# Altium footprint library AMP Footprints.PcbLib: 903 footprints (part 30 of 58)
Each footprint in its own frame and in the unit in brackets; x right, y up, seen from the top. Pads: shape width x height; smd on the part's side, far side on the other; paste and mask are expansions set on the pad; w line width, h text height; cw(c..) or ccw(c..) is an arc to the next point about the centre after c.
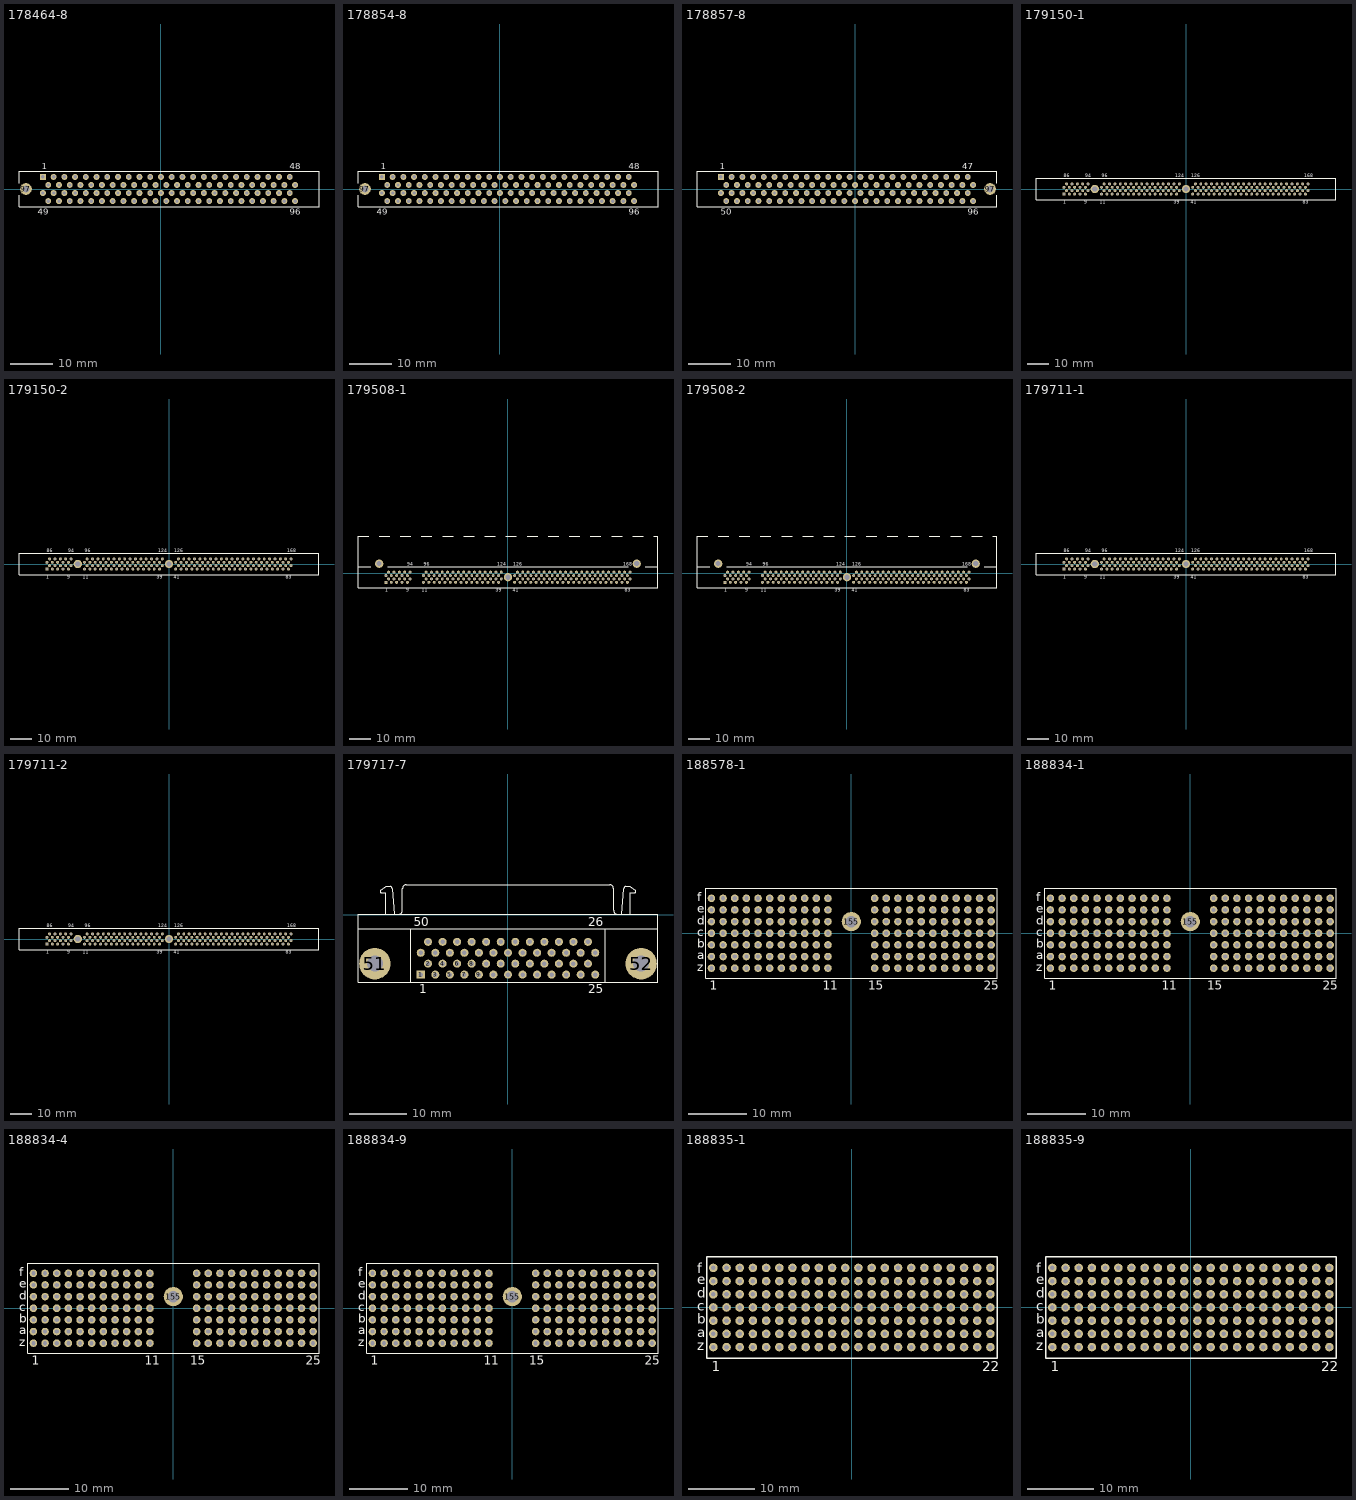
[diagram p29: the footprints below, top view; thin cyan lines are the x and y axes]

## 178464-8 [mm] "Connector; D Subminiature 050 Series; 96 Position; Vertical"
height 9.5
pads (97):
  rect 1.4x1.4 hole 0.8: 1(-27.845,2.857)
  round 1.4 hole 0.8: 2(-26.575,0.953) 3(-25.305,2.857) 4(-24.035,0.953) 5(-22.765,2.857) 6(-21.495,0.953) 7(-20.225,2.857) 8(-18.955,0.953) 9(-17.685,2.857) 10(-16.415,0.953) 11(-15.145,2.857) 12(-13.875,0.953) 13(-12.605,2.857) 14(-11.335,0.953) 15(-10.065,2.857) 16(-8.795,0.953) 17(-7.525,2.857) 18(-6.255,0.953) 19(-4.985,2.857) 20(-3.715,0.953) 21(-2.445,2.857) 22(-1.175,0.953) 23(0.095,2.857) 24(1.365,0.953) 25(2.635,2.857) 26(3.905,0.953) 27(5.175,2.857) 28(6.445,0.953) 29(7.715,2.857) 30(8.985,0.953) 31(10.255,2.857) 32(11.525,0.953) 33(12.795,2.857) 34(14.065,0.953) 35(15.335,2.857) 36(16.605,0.953) 37(17.875,2.857) 38(19.145,0.953) 39(20.415,2.857) 40(21.685,0.953) 41(22.955,2.857) 42(24.225,0.953) 43(25.495,2.857) 44(26.765,0.953) 45(28.035,2.857) 46(29.305,0.953) 47(30.575,2.857) 48(31.845,0.953) 49(-27.845,-0.953) 50(-26.575,-2.857) 51(-25.305,-0.953) 52(-24.035,-2.857) 53(-22.765,-0.953) 54(-21.495,-2.857) 55(-20.225,-0.953) 56(-18.955,-2.857) 57(-17.685,-0.953) 58(-16.415,-2.857) 59(-15.145,-0.953) 60(-13.875,-2.857) 61(-12.605,-0.953) 62(-11.335,-2.857) 63(-10.065,-0.953) 64(-8.795,-2.857) 65(-7.525,-0.953) 66(-6.255,-2.857) 67(-4.985,-0.953) 68(-3.715,-2.857) 69(-2.445,-0.953) 70(-1.175,-2.857) 71(0.095,-0.953) 72(1.365,-2.857) 73(2.635,-0.953) 74(3.905,-2.857) 75(5.175,-0.953) 76(6.445,-2.857) 77(7.715,-0.953) 78(8.985,-2.857) 79(10.255,-0.953) 80(11.525,-2.857) 81(12.795,-0.953) 82(14.065,-2.857) 83(15.335,-0.953) 84(16.605,-2.857) 85(17.875,-0.953) 86(19.145,-2.857) 87(20.415,-0.953) 88(21.685,-2.857) 89(22.955,-0.953) 90(24.225,-2.857) 91(25.495,-0.953) 92(26.765,-2.857) 93(28.035,-0.953) 94(29.305,-2.857) 95(30.575,-0.953) 96(31.845,-2.857)
  round 2.8 hole 1.7: 97(-31.845,0)
Top Overlay:
  lines w0.2: -33.5,-1.45 -33.5,-4.157 37.5,-4.157 37.5,4.157 -33.5,4.157 -33.5,1.411
  text "49" at -29.095,-6.132 h1.5
  text "1" at -28.095,4.633 h1.5
  text "48" at 30.595,4.633 h1.5
  text "96" at 30.595,-6.132 h1.5

## 178854-8 [mm] "Connector; D Subminiature 050 Series; 96 Position; Vertical"
height 9.5
pads (97):
  rect 1.4x1.4 hole 0.8: 1(-27.845,2.857)
  round 1.4 hole 0.8: 2(-26.575,0.953) 3(-25.305,2.857) 4(-24.035,0.953) 5(-22.765,2.857) 6(-21.495,0.953) 7(-20.225,2.857) 8(-18.955,0.953) 9(-17.685,2.857) 10(-16.415,0.953) 11(-15.145,2.857) 12(-13.875,0.953) 13(-12.605,2.857) 14(-11.335,0.953) 15(-10.065,2.857) 16(-8.795,0.953) 17(-7.525,2.857) 18(-6.255,0.953) 19(-4.985,2.857) 20(-3.715,0.953) 21(-2.445,2.857) 22(-1.175,0.953) 23(0.095,2.857) 24(1.365,0.953) 25(2.635,2.857) 26(3.905,0.953) 27(5.175,2.857) 28(6.445,0.953) 29(7.715,2.857) 30(8.985,0.953) 31(10.255,2.857) 32(11.525,0.953) 33(12.795,2.857) 34(14.065,0.953) 35(15.335,2.857) 36(16.605,0.953) 37(17.875,2.857) 38(19.145,0.953) 39(20.415,2.857) 40(21.685,0.953) 41(22.955,2.857) 42(24.225,0.953) 43(25.495,2.857) 44(26.765,0.953) 45(28.035,2.857) 46(29.305,0.953) 47(30.575,2.857) 48(31.845,0.953) 49(-27.845,-0.953) 50(-26.575,-2.857) 51(-25.305,-0.953) 52(-24.035,-2.857) 53(-22.765,-0.953) 54(-21.495,-2.857) 55(-20.225,-0.953) 56(-18.955,-2.857) 57(-17.685,-0.953) 58(-16.415,-2.857) 59(-15.145,-0.953) 60(-13.875,-2.857) 61(-12.605,-0.953) 62(-11.335,-2.857) 63(-10.065,-0.953) 64(-8.795,-2.857) 65(-7.525,-0.953) 66(-6.255,-2.857) 67(-4.985,-0.953) 68(-3.715,-2.857) 69(-2.445,-0.953) 70(-1.175,-2.857) 71(0.095,-0.953) 72(1.365,-2.857) 73(2.635,-0.953) 74(3.905,-2.857) 75(5.175,-0.953) 76(6.445,-2.857) 77(7.715,-0.953) 78(8.985,-2.857) 79(10.255,-0.953) 80(11.525,-2.857) 81(12.795,-0.953) 82(14.065,-2.857) 83(15.335,-0.953) 84(16.605,-2.857) 85(17.875,-0.953) 86(19.145,-2.857) 87(20.415,-0.953) 88(21.685,-2.857) 89(22.955,-0.953) 90(24.225,-2.857) 91(25.495,-0.953) 92(26.765,-2.857) 93(28.035,-0.953) 94(29.305,-2.857) 95(30.575,-0.953) 96(31.845,-2.857)
  round 2.8 hole 1.7: 97(-31.845,0)
Top Overlay:
  lines w0.2: -33.5,-1.45 -33.5,-4.157 37.5,-4.157 37.5,4.157 -33.5,4.157 -33.5,1.411
  text "49" at -29.095,-6.132 h1.5
  text "1" at -28.095,4.633 h1.5
  text "48" at 30.595,4.633 h1.5
  text "96" at 30.595,-6.132 h1.5

## 178857-8 [mm] "Connector; D Subminiature 050 Series; 96 Position; Vertical"
height 9.5
pads (97):
  rect 1.4x1.4 hole 0.8: 1(-31.845,2.857)
  round 1.4 hole 0.8: 2(-30.575,0.953) 3(-29.305,2.857) 4(-28.035,0.953) 5(-26.765,2.857) 6(-25.495,0.953) 7(-24.225,2.857) 8(-22.955,0.953) 9(-21.685,2.857) 10(-20.415,0.953) 11(-19.145,2.857) 12(-17.875,0.953) 13(-16.605,2.857) 14(-15.335,0.953) 15(-14.065,2.857) 16(-12.795,0.953) 17(-11.525,2.857) 18(-10.255,0.953) 19(-8.985,2.857) 20(-7.715,0.953) 21(-6.445,2.857) 22(-5.175,0.953) 23(-3.905,2.857) 24(-2.635,0.953) 25(-1.365,2.857) 26(-0.095,0.953) 27(1.175,2.857) 28(2.445,0.953) 29(3.715,2.857) 30(4.985,0.953) 31(6.255,2.857) 32(7.525,0.953) 33(8.795,2.857) 34(10.065,0.953) 35(11.335,2.857) 36(12.605,0.953) 37(13.875,2.857) 38(15.145,0.953) 39(16.415,2.857) 40(17.685,0.953) 41(18.955,2.857) 42(20.225,0.953) 43(21.495,2.857) 44(22.765,0.953) 45(24.035,2.857) 46(25.305,0.953) 47(26.575,2.857) 48(27.845,0.953) 49(-31.845,-0.953) 50(-30.575,-2.857) 51(-29.305,-0.953) 52(-28.035,-2.857) 53(-26.765,-0.953) 54(-25.495,-2.857) 55(-24.225,-0.953) 56(-22.955,-2.857) 57(-21.685,-0.953) 58(-20.415,-2.857) 59(-19.145,-0.953) 60(-17.875,-2.857) 61(-16.605,-0.953) 62(-15.335,-2.857) 63(-14.065,-0.953) 64(-12.795,-2.857) 65(-11.525,-0.953) 66(-10.255,-2.857) 67(-8.985,-0.953) 68(-7.715,-2.857) 69(-6.445,-0.953) 70(-5.175,-2.857) 71(-3.905,-0.953) 72(-2.635,-2.857) 73(-1.365,-0.953) 74(-0.095,-2.857) 75(1.175,-0.953) 76(2.445,-2.857) 77(3.715,-0.953) 78(4.985,-2.857) 79(6.255,-0.953) 80(7.525,-2.857) 81(8.795,-0.953) 82(10.065,-2.857) 83(11.335,-0.953) 84(12.605,-2.857) 85(13.875,-0.953) 86(15.145,-2.857) 87(16.415,-0.953) 88(17.685,-2.857) 89(18.955,-0.953) 90(20.225,-2.857) 91(21.495,-0.953) 92(22.765,-2.857) 93(24.035,-0.953) 94(25.305,-2.857) 95(26.575,-0.953) 96(27.845,-2.857)
  round 2.8 hole 1.7: 97(31.845,0)
Top Overlay:
  lines w0.2: 33.5,-1.45 33.5,-4.157 -37.5,-4.157 -37.5,4.157 33.5,4.157 33.5,1.411
  text "47" at 25.325,4.633 h1.5
  text "50" at -31.825,-6.132 h1.5
  text "96" at 26.595,-6.132 h1.5
  text "1" at -32.095,4.633 h1.5

## 179150-1 [mm] "Connector; DIMM; 168 Position; Vertical"
height 23.15
pads (170):
  rect 1.4x1.4 hole 0.8: 1(-57.785,-2.4)
  round 1.4 hole 0.8: 2(-56.515,-0.8) 3(-55.245,-2.4) 4(-53.975,-0.8) 5(-52.705,-2.4) 6(-51.435,-0.8) 7(-50.165,-2.4) 8(-48.895,-0.8) 9(-47.625,-2.4) 10(-46.355,-0.8) 11(-40.005,-2.4) 12(-38.735,-0.8) 13(-37.465,-2.4) 14(-36.195,-0.8) 15(-34.925,-2.4) 16(-33.655,-0.8) 17(-32.385,-2.4) 18(-31.115,-0.8) 19(-29.845,-2.4) 20(-28.575,-0.8) 21(-27.305,-2.4) 22(-26.035,-0.8) 23(-24.765,-2.4) 24(-23.495,-0.8) 25(-22.225,-2.4) 26(-20.955,-0.8) 27(-19.685,-2.4) 28(-18.415,-0.8) 29(-17.145,-2.4) 30(-15.875,-0.8) 31(-14.605,-2.4) 32(-13.335,-0.8) 33(-12.065,-2.4) 34(-10.795,-0.8) 35(-9.525,-2.4) 36(-8.255,-0.8) 37(-6.985,-2.4) 38(-5.715,-0.8) 39(-4.445,-2.4) 40(-3.175,-0.8) 41(3.175,-2.4) 42(4.445,-0.8) 43(5.715,-2.4) 44(6.985,-0.8) 45(8.255,-2.4) 46(9.525,-0.8) 47(10.795,-2.4) 48(12.065,-0.8) 49(13.335,-2.4) 50(14.605,-0.8) 51(15.875,-2.4) 52(17.145,-0.8) 53(18.415,-2.4) 54(19.685,-0.8) 55(20.955,-2.4) 56(22.225,-0.8) 57(23.495,-2.4) 58(24.765,-0.8) 59(26.035,-2.4) 60(27.305,-0.8) 61(28.575,-2.4) 62(29.845,-0.8) 63(31.115,-2.4) 64(32.385,-0.8) 65(33.655,-2.4) 66(34.925,-0.8) 67(36.195,-2.4) 68(37.465,-0.8) 69(38.735,-2.4) 70(40.005,-0.8) 71(41.275,-2.4) 72(42.545,-0.8) 73(43.815,-2.4) 74(45.085,-0.8) 75(46.355,-2.4) 76(47.625,-0.8) 77(48.895,-2.4) 78(50.165,-0.8) 79(51.435,-2.4) 80(52.705,-0.8) 81(53.975,-2.4) 82(55.245,-0.8) 83(56.515,-2.4) 84(57.785,-0.8) 85(-57.785,0.8) 86(-56.515,2.4) 87(-55.245,0.8) 88(-53.975,2.4) 89(-52.705,0.8) 90(-51.435,2.4) 91(-50.165,0.8) 92(-48.895,2.4) 93(-47.625,0.8) 94(-46.355,2.4) 95(-40.005,0.8) 96(-38.735,2.4) 97(-37.465,0.8) 98(-36.195,2.4) 99(-34.925,0.8) 100(-33.655,2.4) 101(-32.385,0.8) 102(-31.115,2.4) 103(-29.845,0.8) 104(-28.575,2.4) 105(-27.305,0.8) 106(-26.035,2.4) 107(-24.765,0.8) 108(-23.495,2.4) 109(-22.225,0.8) 110(-20.955,2.4) 111(-19.685,0.8) 112(-18.415,2.4) 113(-17.145,0.8) 114(-15.875,2.4) 115(-14.605,0.8) 116(-13.335,2.4) 117(-12.065,0.8) 118(-10.795,2.4) 119(-9.525,0.8) 120(-8.255,2.4) 121(-6.985,0.8) 122(-5.715,2.4) 123(-4.445,0.8) 124(-3.175,2.4) 125(3.175,0.8) 126(4.445,2.4) 127(5.715,0.8) 128(6.985,2.4) 129(8.255,0.8) 130(9.525,2.4) 131(10.795,0.8) 132(12.065,2.4) 133(13.335,0.8) 134(14.605,2.4) 135(15.875,0.8) 136(17.145,2.4) 137(18.415,0.8) 138(19.685,2.4) 139(20.955,0.8) 140(22.225,2.4) 141(23.495,0.8) 142(24.765,2.4) 143(26.035,0.8) 144(27.305,2.4) 145(28.575,0.8) 146(29.845,2.4) 147(31.115,0.8) 148(32.385,2.4) 149(33.655,0.8) 150(34.925,2.4) 151(36.195,0.8) 152(37.465,2.4) 153(38.735,0.8) 154(40.005,2.4) 155(41.275,0.8) 156(42.545,2.4) 157(43.815,0.8) 158(45.085,2.4) 159(46.355,0.8) 160(47.625,2.4) 161(48.895,0.8) 162(50.165,2.4) 163(51.435,0.8) 164(52.705,2.4) 165(53.975,0.8) 166(55.245,2.4) 167(56.515,0.8) 168(57.785,2.4)
  round 3.9 hole 2.4: 169(-43.18,0) 170(0,0)
Top Overlay:
  lines w0.2: -71,-5 71,-5 71,5 -71,5 -71,-5
  text "86" at -57.765,5.475 h1.5
  text "1" at -58.035,-6.975 h1.5
  text "94" at -47.605,5.475 h1.5
  text "11" at -40.88,-6.975 h1.5
  text "96" at -39.985,5.475 h1.5
  text "124" at -5.05,5.475 h1.5
  text "41" at 2.175,-6.975 h1.5
  text "126" at 2.57,5.475 h1.5
  text "83" at 55.265,-6.975 h1.5
  text "168" at 55.91,5.475 h1.5
  text "9" at -48.125,-6.975 h1.5
  text "39" at -5.695,-6.975 h1.5

## 179150-2 [mm] "Connector; DIMM; 168 Position; Vertical"
height 23.15
pads (170):
  rect 1.4x1.4 hole 0.8: 1(-57.785,-2.4)
  round 1.4 hole 0.8: 2(-56.515,-0.8) 3(-55.245,-2.4) 4(-53.975,-0.8) 5(-52.705,-2.4) 6(-51.435,-0.8) 7(-50.165,-2.4) 8(-48.895,-0.8) 9(-47.625,-2.4) 10(-46.355,-0.8) 11(-40.005,-2.4) 12(-38.735,-0.8) 13(-37.465,-2.4) 14(-36.195,-0.8) 15(-34.925,-2.4) 16(-33.655,-0.8) 17(-32.385,-2.4) 18(-31.115,-0.8) 19(-29.845,-2.4) 20(-28.575,-0.8) 21(-27.305,-2.4) 22(-26.035,-0.8) 23(-24.765,-2.4) 24(-23.495,-0.8) 25(-22.225,-2.4) 26(-20.955,-0.8) 27(-19.685,-2.4) 28(-18.415,-0.8) 29(-17.145,-2.4) 30(-15.875,-0.8) 31(-14.605,-2.4) 32(-13.335,-0.8) 33(-12.065,-2.4) 34(-10.795,-0.8) 35(-9.525,-2.4) 36(-8.255,-0.8) 37(-6.985,-2.4) 38(-5.715,-0.8) 39(-4.445,-2.4) 40(-3.175,-0.8) 41(3.175,-2.4) 42(4.445,-0.8) 43(5.715,-2.4) 44(6.985,-0.8) 45(8.255,-2.4) 46(9.525,-0.8) 47(10.795,-2.4) 48(12.065,-0.8) 49(13.335,-2.4) 50(14.605,-0.8) 51(15.875,-2.4) 52(17.145,-0.8) 53(18.415,-2.4) 54(19.685,-0.8) 55(20.955,-2.4) 56(22.225,-0.8) 57(23.495,-2.4) 58(24.765,-0.8) 59(26.035,-2.4) 60(27.305,-0.8) 61(28.575,-2.4) 62(29.845,-0.8) 63(31.115,-2.4) 64(32.385,-0.8) 65(33.655,-2.4) 66(34.925,-0.8) 67(36.195,-2.4) 68(37.465,-0.8) 69(38.735,-2.4) 70(40.005,-0.8) 71(41.275,-2.4) 72(42.545,-0.8) 73(43.815,-2.4) 74(45.085,-0.8) 75(46.355,-2.4) 76(47.625,-0.8) 77(48.895,-2.4) 78(50.165,-0.8) 79(51.435,-2.4) 80(52.705,-0.8) 81(53.975,-2.4) 82(55.245,-0.8) 83(56.515,-2.4) 84(57.785,-0.8) 85(-57.785,0.8) 86(-56.515,2.4) 87(-55.245,0.8) 88(-53.975,2.4) 89(-52.705,0.8) 90(-51.435,2.4) 91(-50.165,0.8) 92(-48.895,2.4) 93(-47.625,0.8) 94(-46.355,2.4) 95(-40.005,0.8) 96(-38.735,2.4) 97(-37.465,0.8) 98(-36.195,2.4) 99(-34.925,0.8) 100(-33.655,2.4) 101(-32.385,0.8) 102(-31.115,2.4) 103(-29.845,0.8) 104(-28.575,2.4) 105(-27.305,0.8) 106(-26.035,2.4) 107(-24.765,0.8) 108(-23.495,2.4) 109(-22.225,0.8) 110(-20.955,2.4) 111(-19.685,0.8) 112(-18.415,2.4) 113(-17.145,0.8) 114(-15.875,2.4) 115(-14.605,0.8) 116(-13.335,2.4) 117(-12.065,0.8) 118(-10.795,2.4) 119(-9.525,0.8) 120(-8.255,2.4) 121(-6.985,0.8) 122(-5.715,2.4) 123(-4.445,0.8) 124(-3.175,2.4) 125(3.175,0.8) 126(4.445,2.4) 127(5.715,0.8) 128(6.985,2.4) 129(8.255,0.8) 130(9.525,2.4) 131(10.795,0.8) 132(12.065,2.4) 133(13.335,0.8) 134(14.605,2.4) 135(15.875,0.8) 136(17.145,2.4) 137(18.415,0.8) 138(19.685,2.4) 139(20.955,0.8) 140(22.225,2.4) 141(23.495,0.8) 142(24.765,2.4) 143(26.035,0.8) 144(27.305,2.4) 145(28.575,0.8) 146(29.845,2.4) 147(31.115,0.8) 148(32.385,2.4) 149(33.655,0.8) 150(34.925,2.4) 151(36.195,0.8) 152(37.465,2.4) 153(38.735,0.8) 154(40.005,2.4) 155(41.275,0.8) 156(42.545,2.4) 157(43.815,0.8) 158(45.085,2.4) 159(46.355,0.8) 160(47.625,2.4) 161(48.895,0.8) 162(50.165,2.4) 163(51.435,0.8) 164(52.705,2.4) 165(53.975,0.8) 166(55.245,2.4) 167(56.515,0.8) 168(57.785,2.4)
  round 3.9 hole 2.4: 169(-43.18,0) 170(0,0)
Top Overlay:
  lines w0.2: -71,-5 71,-5 71,5 -71,5 -71,-5
  text "86" at -57.765,5.475 h1.5
  text "1" at -58.035,-6.975 h1.5
  text "94" at -47.605,5.475 h1.5
  text "11" at -40.88,-6.975 h1.5
  text "96" at -39.985,5.475 h1.5
  text "124" at -5.05,5.475 h1.5
  text "41" at 2.175,-6.975 h1.5
  text "126" at 2.57,5.475 h1.5
  text "83" at 55.265,-6.975 h1.5
  text "168" at 55.91,5.475 h1.5
  text "9" at -48.125,-6.975 h1.5
  text "39" at -5.695,-6.975 h1.5

## 179508-1 [mm] "Connector; DIMM; 168 Position; Orientation 25°"
height 12.7
pads (171):
  rect 1.4x1.4 hole 0.8: 1(-57.785,-4.4)
  round 1.4 hole 0.8: 2(-56.515,-2.8) 3(-55.245,-4.4) 4(-53.975,-2.8) 5(-52.705,-4.4) 6(-51.435,-2.8) 7(-50.165,-4.4) 8(-48.895,-2.8) 9(-47.625,-4.4) 10(-46.355,-2.8) 11(-40.005,-4.4) 12(-38.735,-2.8) 13(-37.465,-4.4) 14(-36.195,-2.8) 15(-34.925,-4.4) 16(-33.655,-2.8) 17(-32.385,-4.4) 18(-31.115,-2.8) 19(-29.845,-4.4) 20(-28.575,-2.8) 21(-27.305,-4.4) 22(-26.035,-2.8) 23(-24.765,-4.4) 24(-23.495,-2.8) 25(-22.225,-4.4) 26(-20.955,-2.8) 27(-19.685,-4.4) 28(-18.415,-2.8) 29(-17.145,-4.4) 30(-15.875,-2.8) 31(-14.605,-4.4) 32(-13.335,-2.8) 33(-12.065,-4.4) 34(-10.795,-2.8) 35(-9.525,-4.4) 36(-8.255,-2.8) 37(-6.985,-4.4) 38(-5.715,-2.8) 39(-4.445,-4.4) 40(-3.175,-2.8) 41(3.175,-4.4) 42(4.445,-2.8) 43(5.715,-4.4) 44(6.985,-2.8) 45(8.255,-4.4) 46(9.525,-2.8) 47(10.795,-4.4) 48(12.065,-2.8) 49(13.335,-4.4) 50(14.605,-2.8) 51(15.875,-4.4) 52(17.145,-2.8) 53(18.415,-4.4) 54(19.685,-2.8) 55(20.955,-4.4) 56(22.225,-2.8) 57(23.495,-4.4) 58(24.765,-2.8) 59(26.035,-4.4) 60(27.305,-2.8) 61(28.575,-4.4) 62(29.845,-2.8) 63(31.115,-4.4) 64(32.385,-2.8) 65(33.655,-4.4) 66(34.925,-2.8) 67(36.195,-4.4) 68(37.465,-2.8) 69(38.735,-4.4) 70(40.005,-2.8) 71(41.275,-4.4) 72(42.545,-2.8) 73(43.815,-4.4) 74(45.085,-2.8) 75(46.355,-4.4) 76(47.625,-2.8) 77(48.895,-4.4) 78(50.165,-2.8) 79(51.435,-4.4) 80(52.705,-2.8) 81(53.975,-4.4) 82(55.245,-2.8) 83(56.515,-4.4) 84(57.785,-2.8) 85(-57.785,-1.2) 86(-56.515,0.4) 87(-55.245,-1.2) 88(-53.975,0.4) 89(-52.705,-1.2) 90(-51.435,0.4) 91(-50.165,-1.2) 92(-48.895,0.4) 93(-47.625,-1.2) 94(-46.355,0.4) 95(-40.005,-1.2) 96(-38.735,0.4) 97(-37.465,-1.2) 98(-36.195,0.4) 99(-34.925,-1.2) 100(-33.655,0.4) 101(-32.385,-1.2) 102(-31.115,0.4) 103(-29.845,-1.2) 104(-28.575,0.4) 105(-27.305,-1.2) 106(-26.035,0.4) 107(-24.765,-1.2) 108(-23.495,0.4) 109(-22.225,-1.2) 110(-20.955,0.4) 111(-19.685,-1.2) 112(-18.415,0.4) 113(-17.145,-1.2) 114(-15.875,0.4) 115(-14.605,-1.2) 116(-13.335,0.4) 117(-12.065,-1.2) 118(-10.795,0.4) 119(-9.525,-1.2) 120(-8.255,0.4) 121(-6.985,-1.2) 122(-5.715,0.4) 123(-4.445,-1.2) 124(-3.175,0.4) 125(3.175,-1.2) 126(4.445,0.4) 127(5.715,-1.2) 128(6.985,0.4) 129(8.255,-1.2) 130(9.525,0.4) 131(10.795,-1.2) 132(12.065,0.4) 133(13.335,-1.2) 134(14.605,0.4) 135(15.875,-1.2) 136(17.145,0.4) 137(18.415,-1.2) 138(19.685,0.4) 139(20.955,-1.2) 140(22.225,0.4) 141(23.495,-1.2) 142(24.765,0.4) 143(26.035,-1.2) 144(27.305,0.4) 145(28.575,-1.2) 146(29.845,0.4) 147(31.115,-1.2) 148(32.385,0.4) 149(33.655,-1.2) 150(34.925,0.4) 151(36.195,-1.2) 152(37.465,0.4) 153(38.735,-1.2) 154(40.005,0.4) 155(41.275,-1.2) 156(42.545,0.4) 157(43.815,-1.2) 158(45.085,0.4) 159(46.355,-1.2) 160(47.625,0.4) 161(48.895,-1.2) 162(50.165,0.4) 163(51.435,-1.2) 164(52.705,0.4) 165(53.975,-1.2) 166(55.245,0.4) 167(56.515,-1.2) 168(57.785,0.4)
  round 3.9 hole 2.4: 169(-60.96,4.4) 170(0,-2) 171(60.96,4.4)
Top Overlay:
  lines w0.2: -70.98,3 -70.98,17.5 -65.98,17.5 ; -65,3 -71,3 -71,-7 71,-7 71,3 ; -60.98,17.5 -55.98,17.5 ; -57,3 57,3 ; -50.98,17.5 -45.98,17.5 ; -40.98,17.5 -35.98,17.5 ; -30.98,17.5 -25.98,17.5 ; -20.98,17.5 -15.98,17.5 ; -10.98,17.5 -5.98,17.5 ; -0.98,17.5 4.02,17.5 ; 9.02,17.5 14.02,17.5 ; 19.02,17.5 24.02,17.5 ; 29.02,17.5 34.02,17.5 ; 39.02,17.5 44.02,17.5 ; 49.02,17.5 54.02,17.5 ; 59.02,17.5 64.02,17.5 ; 65,3 71,3 ; 69.02,17.5 71.02,17.5 ; 71,17.5 71,3
  text "1" at -58.035,-8.975 h1.5
  text "94" at -47.605,3.475 h1.5
  text "11" at -40.88,-8.975 h1.5
  text "96" at -39.985,3.475 h1.5
  text "124" at -5.05,3.475 h1.5
  text "41" at 2.175,-8.975 h1.5
  text "126" at 2.57,3.475 h1.5
  text "83" at 55.265,-8.975 h1.5
  text "9" at -48.125,-8.975 h1.5
  text "39" at -5.695,-8.975 h1.5
  text "168" at 54.585,3.475 h1.5

## 179508-2 [mm] "Connector; DIMM; 168 Position; Orientation 25°"
height 12.7
pads (171):
  rect 1.4x1.4 hole 0.8: 1(-57.785,-4.4)
  round 1.4 hole 0.8: 2(-56.515,-2.8) 3(-55.245,-4.4) 4(-53.975,-2.8) 5(-52.705,-4.4) 6(-51.435,-2.8) 7(-50.165,-4.4) 8(-48.895,-2.8) 9(-47.625,-4.4) 10(-46.355,-2.8) 11(-40.005,-4.4) 12(-38.735,-2.8) 13(-37.465,-4.4) 14(-36.195,-2.8) 15(-34.925,-4.4) 16(-33.655,-2.8) 17(-32.385,-4.4) 18(-31.115,-2.8) 19(-29.845,-4.4) 20(-28.575,-2.8) 21(-27.305,-4.4) 22(-26.035,-2.8) 23(-24.765,-4.4) 24(-23.495,-2.8) 25(-22.225,-4.4) 26(-20.955,-2.8) 27(-19.685,-4.4) 28(-18.415,-2.8) 29(-17.145,-4.4) 30(-15.875,-2.8) 31(-14.605,-4.4) 32(-13.335,-2.8) 33(-12.065,-4.4) 34(-10.795,-2.8) 35(-9.525,-4.4) 36(-8.255,-2.8) 37(-6.985,-4.4) 38(-5.715,-2.8) 39(-4.445,-4.4) 40(-3.175,-2.8) 41(3.175,-4.4) 42(4.445,-2.8) 43(5.715,-4.4) 44(6.985,-2.8) 45(8.255,-4.4) 46(9.525,-2.8) 47(10.795,-4.4) 48(12.065,-2.8) 49(13.335,-4.4) 50(14.605,-2.8) 51(15.875,-4.4) 52(17.145,-2.8) 53(18.415,-4.4) 54(19.685,-2.8) 55(20.955,-4.4) 56(22.225,-2.8) 57(23.495,-4.4) 58(24.765,-2.8) 59(26.035,-4.4) 60(27.305,-2.8) 61(28.575,-4.4) 62(29.845,-2.8) 63(31.115,-4.4) 64(32.385,-2.8) 65(33.655,-4.4) 66(34.925,-2.8) 67(36.195,-4.4) 68(37.465,-2.8) 69(38.735,-4.4) 70(40.005,-2.8) 71(41.275,-4.4) 72(42.545,-2.8) 73(43.815,-4.4) 74(45.085,-2.8) 75(46.355,-4.4) 76(47.625,-2.8) 77(48.895,-4.4) 78(50.165,-2.8) 79(51.435,-4.4) 80(52.705,-2.8) 81(53.975,-4.4) 82(55.245,-2.8) 83(56.515,-4.4) 84(57.785,-2.8) 85(-57.785,-1.2) 86(-56.515,0.4) 87(-55.245,-1.2) 88(-53.975,0.4) 89(-52.705,-1.2) 90(-51.435,0.4) 91(-50.165,-1.2) 92(-48.895,0.4) 93(-47.625,-1.2) 94(-46.355,0.4) 95(-40.005,-1.2) 96(-38.735,0.4) 97(-37.465,-1.2) 98(-36.195,0.4) 99(-34.925,-1.2) 100(-33.655,0.4) 101(-32.385,-1.2) 102(-31.115,0.4) 103(-29.845,-1.2) 104(-28.575,0.4) 105(-27.305,-1.2) 106(-26.035,0.4) 107(-24.765,-1.2) 108(-23.495,0.4) 109(-22.225,-1.2) 110(-20.955,0.4) 111(-19.685,-1.2) 112(-18.415,0.4) 113(-17.145,-1.2) 114(-15.875,0.4) 115(-14.605,-1.2) 116(-13.335,0.4) 117(-12.065,-1.2) 118(-10.795,0.4) 119(-9.525,-1.2) 120(-8.255,0.4) 121(-6.985,-1.2) 122(-5.715,0.4) 123(-4.445,-1.2) 124(-3.175,0.4) 125(3.175,-1.2) 126(4.445,0.4) 127(5.715,-1.2) 128(6.985,0.4) 129(8.255,-1.2) 130(9.525,0.4) 131(10.795,-1.2) 132(12.065,0.4) 133(13.335,-1.2) 134(14.605,0.4) 135(15.875,-1.2) 136(17.145,0.4) 137(18.415,-1.2) 138(19.685,0.4) 139(20.955,-1.2) 140(22.225,0.4) 141(23.495,-1.2) 142(24.765,0.4) 143(26.035,-1.2) 144(27.305,0.4) 145(28.575,-1.2) 146(29.845,0.4) 147(31.115,-1.2) 148(32.385,0.4) 149(33.655,-1.2) 150(34.925,0.4) 151(36.195,-1.2) 152(37.465,0.4) 153(38.735,-1.2) 154(40.005,0.4) 155(41.275,-1.2) 156(42.545,0.4) 157(43.815,-1.2) 158(45.085,0.4) 159(46.355,-1.2) 160(47.625,0.4) 161(48.895,-1.2) 162(50.165,0.4) 163(51.435,-1.2) 164(52.705,0.4) 165(53.975,-1.2) 166(55.245,0.4) 167(56.515,-1.2) 168(57.785,0.4)
  round 3.9 hole 2.4: 169(-60.96,4.4) 170(0,-2) 171(60.96,4.4)
Top Overlay:
  lines w0.2: -70.98,3 -70.98,17.5 -65.98,17.5 ; -65,3 -71,3 -71,-7 71,-7 71,3 ; -60.98,17.5 -55.98,17.5 ; -57,3 57,3 ; -50.98,17.5 -45.98,17.5 ; -40.98,17.5 -35.98,17.5 ; -30.98,17.5 -25.98,17.5 ; -20.98,17.5 -15.98,17.5 ; -10.98,17.5 -5.98,17.5 ; -0.98,17.5 4.02,17.5 ; 9.02,17.5 14.02,17.5 ; 19.02,17.5 24.02,17.5 ; 29.02,17.5 34.02,17.5 ; 39.02,17.5 44.02,17.5 ; 49.02,17.5 54.02,17.5 ; 59.02,17.5 64.02,17.5 ; 65,3 71,3 ; 69.02,17.5 71.02,17.5 ; 71,17.5 71,3
  text "1" at -58.035,-8.975 h1.5
  text "94" at -47.605,3.475 h1.5
  text "11" at -40.88,-8.975 h1.5
  text "96" at -39.985,3.475 h1.5
  text "124" at -5.05,3.475 h1.5
  text "41" at 2.175,-8.975 h1.5
  text "126" at 2.57,3.475 h1.5
  text "83" at 55.265,-8.975 h1.5
  text "9" at -48.125,-8.975 h1.5
  text "39" at -5.695,-8.975 h1.5
  text "168" at 54.585,3.475 h1.5

## 179711-1 [mm] "Connector; DIMM; 168 Position; Vertical"
height 28.55
pads (170):
  rect 1.4x1.4 hole 0.8: 1(-57.785,-2.4)
  round 1.4 hole 0.8: 2(-56.515,-0.8) 3(-55.245,-2.4) 4(-53.975,-0.8) 5(-52.705,-2.4) 6(-51.435,-0.8) 7(-50.165,-2.4) 8(-48.895,-0.8) 9(-47.625,-2.4) 10(-46.355,-0.8) 11(-40.005,-2.4) 12(-38.735,-0.8) 13(-37.465,-2.4) 14(-36.195,-0.8) 15(-34.925,-2.4) 16(-33.655,-0.8) 17(-32.385,-2.4) 18(-31.115,-0.8) 19(-29.845,-2.4) 20(-28.575,-0.8) 21(-27.305,-2.4) 22(-26.035,-0.8) 23(-24.765,-2.4) 24(-23.495,-0.8) 25(-22.225,-2.4) 26(-20.955,-0.8) 27(-19.685,-2.4) 28(-18.415,-0.8) 29(-17.145,-2.4) 30(-15.875,-0.8) 31(-14.605,-2.4) 32(-13.335,-0.8) 33(-12.065,-2.4) 34(-10.795,-0.8) 35(-9.525,-2.4) 36(-8.255,-0.8) 37(-6.985,-2.4) 38(-5.715,-0.8) 39(-4.445,-2.4) 40(-3.175,-0.8) 41(3.175,-2.4) 42(4.445,-0.8) 43(5.715,-2.4) 44(6.985,-0.8) 45(8.255,-2.4) 46(9.525,-0.8) 47(10.795,-2.4) 48(12.065,-0.8) 49(13.335,-2.4) 50(14.605,-0.8) 51(15.875,-2.4) 52(17.145,-0.8) 53(18.415,-2.4) 54(19.685,-0.8) 55(20.955,-2.4) 56(22.225,-0.8) 57(23.495,-2.4) 58(24.765,-0.8) 59(26.035,-2.4) 60(27.305,-0.8) 61(28.575,-2.4) 62(29.845,-0.8) 63(31.115,-2.4) 64(32.385,-0.8) 65(33.655,-2.4) 66(34.925,-0.8) 67(36.195,-2.4) 68(37.465,-0.8) 69(38.735,-2.4) 70(40.005,-0.8) 71(41.275,-2.4) 72(42.545,-0.8) 73(43.815,-2.4) 74(45.085,-0.8) 75(46.355,-2.4) 76(47.625,-0.8) 77(48.895,-2.4) 78(50.165,-0.8) 79(51.435,-2.4) 80(52.705,-0.8) 81(53.975,-2.4) 82(55.245,-0.8) 83(56.515,-2.4) 84(57.785,-0.8) 85(-57.785,0.8) 86(-56.515,2.4) 87(-55.245,0.8) 88(-53.975,2.4) 89(-52.705,0.8) 90(-51.435,2.4) 91(-50.165,0.8) 92(-48.895,2.4) 93(-47.625,0.8) 94(-46.355,2.4) 95(-40.005,0.8) 96(-38.735,2.4) 97(-37.465,0.8) 98(-36.195,2.4) 99(-34.925,0.8) 100(-33.655,2.4) 101(-32.385,0.8) 102(-31.115,2.4) 103(-29.845,0.8) 104(-28.575,2.4) 105(-27.305,0.8) 106(-26.035,2.4) 107(-24.765,0.8) 108(-23.495,2.4) 109(-22.225,0.8) 110(-20.955,2.4) 111(-19.685,0.8) 112(-18.415,2.4) 113(-17.145,0.8) 114(-15.875,2.4) 115(-14.605,0.8) 116(-13.335,2.4) 117(-12.065,0.8) 118(-10.795,2.4) 119(-9.525,0.8) 120(-8.255,2.4) 121(-6.985,0.8) 122(-5.715,2.4) 123(-4.445,0.8) 124(-3.175,2.4) 125(3.175,0.8) 126(4.445,2.4) 127(5.715,0.8) 128(6.985,2.4) 129(8.255,0.8) 130(9.525,2.4) 131(10.795,0.8) 132(12.065,2.4) 133(13.335,0.8) 134(14.605,2.4) 135(15.875,0.8) 136(17.145,2.4) 137(18.415,0.8) 138(19.685,2.4) 139(20.955,0.8) 140(22.225,2.4) 141(23.495,0.8) 142(24.765,2.4) 143(26.035,0.8) 144(27.305,2.4) 145(28.575,0.8) 146(29.845,2.4) 147(31.115,0.8) 148(32.385,2.4) 149(33.655,0.8) 150(34.925,2.4) 151(36.195,0.8) 152(37.465,2.4) 153(38.735,0.8) 154(40.005,2.4) 155(41.275,0.8) 156(42.545,2.4) 157(43.815,0.8) 158(45.085,2.4) 159(46.355,0.8) 160(47.625,2.4) 161(48.895,0.8) 162(50.165,2.4) 163(51.435,0.8) 164(52.705,2.4) 165(53.975,0.8) 166(55.245,2.4) 167(56.515,0.8) 168(57.785,2.4)
  round 3.9 hole 2.4: 169(-43.18,0) 170(0,0)
Top Overlay:
  lines w0.2: -71,-5 71,-5 71,5 -71,5 -71,-5
  text "86" at -57.765,5.475 h1.5
  text "1" at -58.035,-6.975 h1.5
  text "94" at -47.605,5.475 h1.5
  text "11" at -40.88,-6.975 h1.5
  text "96" at -39.985,5.475 h1.5
  text "124" at -5.05,5.475 h1.5
  text "41" at 2.175,-6.975 h1.5
  text "126" at 2.57,5.475 h1.5
  text "83" at 55.265,-6.975 h1.5
  text "168" at 55.91,5.475 h1.5
  text "9" at -48.125,-6.975 h1.5
  text "39" at -5.695,-6.975 h1.5

## 179711-2 [mm] "Connector; DIMM; 168 Position; Vertical"
height 28.55
pads (170):
  rect 1.4x1.4 hole 0.8: 1(-57.785,-2.4)
  round 1.4 hole 0.8: 2(-56.515,-0.8) 3(-55.245,-2.4) 4(-53.975,-0.8) 5(-52.705,-2.4) 6(-51.435,-0.8) 7(-50.165,-2.4) 8(-48.895,-0.8) 9(-47.625,-2.4) 10(-46.355,-0.8) 11(-40.005,-2.4) 12(-38.735,-0.8) 13(-37.465,-2.4) 14(-36.195,-0.8) 15(-34.925,-2.4) 16(-33.655,-0.8) 17(-32.385,-2.4) 18(-31.115,-0.8) 19(-29.845,-2.4) 20(-28.575,-0.8) 21(-27.305,-2.4) 22(-26.035,-0.8) 23(-24.765,-2.4) 24(-23.495,-0.8) 25(-22.225,-2.4) 26(-20.955,-0.8) 27(-19.685,-2.4) 28(-18.415,-0.8) 29(-17.145,-2.4) 30(-15.875,-0.8) 31(-14.605,-2.4) 32(-13.335,-0.8) 33(-12.065,-2.4) 34(-10.795,-0.8) 35(-9.525,-2.4) 36(-8.255,-0.8) 37(-6.985,-2.4) 38(-5.715,-0.8) 39(-4.445,-2.4) 40(-3.175,-0.8) 41(3.175,-2.4) 42(4.445,-0.8) 43(5.715,-2.4) 44(6.985,-0.8) 45(8.255,-2.4) 46(9.525,-0.8) 47(10.795,-2.4) 48(12.065,-0.8) 49(13.335,-2.4) 50(14.605,-0.8) 51(15.875,-2.4) 52(17.145,-0.8) 53(18.415,-2.4) 54(19.685,-0.8) 55(20.955,-2.4) 56(22.225,-0.8) 57(23.495,-2.4) 58(24.765,-0.8) 59(26.035,-2.4) 60(27.305,-0.8) 61(28.575,-2.4) 62(29.845,-0.8) 63(31.115,-2.4) 64(32.385,-0.8) 65(33.655,-2.4) 66(34.925,-0.8) 67(36.195,-2.4) 68(37.465,-0.8) 69(38.735,-2.4) 70(40.005,-0.8) 71(41.275,-2.4) 72(42.545,-0.8) 73(43.815,-2.4) 74(45.085,-0.8) 75(46.355,-2.4) 76(47.625,-0.8) 77(48.895,-2.4) 78(50.165,-0.8) 79(51.435,-2.4) 80(52.705,-0.8) 81(53.975,-2.4) 82(55.245,-0.8) 83(56.515,-2.4) 84(57.785,-0.8) 85(-57.785,0.8) 86(-56.515,2.4) 87(-55.245,0.8) 88(-53.975,2.4) 89(-52.705,0.8) 90(-51.435,2.4) 91(-50.165,0.8) 92(-48.895,2.4) 93(-47.625,0.8) 94(-46.355,2.4) 95(-40.005,0.8) 96(-38.735,2.4) 97(-37.465,0.8) 98(-36.195,2.4) 99(-34.925,0.8) 100(-33.655,2.4) 101(-32.385,0.8) 102(-31.115,2.4) 103(-29.845,0.8) 104(-28.575,2.4) 105(-27.305,0.8) 106(-26.035,2.4) 107(-24.765,0.8) 108(-23.495,2.4) 109(-22.225,0.8) 110(-20.955,2.4) 111(-19.685,0.8) 112(-18.415,2.4) 113(-17.145,0.8) 114(-15.875,2.4) 115(-14.605,0.8) 116(-13.335,2.4) 117(-12.065,0.8) 118(-10.795,2.4) 119(-9.525,0.8) 120(-8.255,2.4) 121(-6.985,0.8) 122(-5.715,2.4) 123(-4.445,0.8) 124(-3.175,2.4) 125(3.175,0.8) 126(4.445,2.4) 127(5.715,0.8) 128(6.985,2.4) 129(8.255,0.8) 130(9.525,2.4) 131(10.795,0.8) 132(12.065,2.4) 133(13.335,0.8) 134(14.605,2.4) 135(15.875,0.8) 136(17.145,2.4) 137(18.415,0.8) 138(19.685,2.4) 139(20.955,0.8) 140(22.225,2.4) 141(23.495,0.8) 142(24.765,2.4) 143(26.035,0.8) 144(27.305,2.4) 145(28.575,0.8) 146(29.845,2.4) 147(31.115,0.8) 148(32.385,2.4) 149(33.655,0.8) 150(34.925,2.4) 151(36.195,0.8) 152(37.465,2.4) 153(38.735,0.8) 154(40.005,2.4) 155(41.275,0.8) 156(42.545,2.4) 157(43.815,0.8) 158(45.085,2.4) 159(46.355,0.8) 160(47.625,2.4) 161(48.895,0.8) 162(50.165,2.4) 163(51.435,0.8) 164(52.705,2.4) 165(53.975,0.8) 166(55.245,2.4) 167(56.515,0.8) 168(57.785,2.4)
  round 3.9 hole 2.4: 169(-43.18,0) 170(0,0)
Top Overlay:
  lines w0.2: -71,-5 71,-5 71,5 -71,5 -71,-5
  text "86" at -57.765,5.475 h1.5
  text "1" at -58.035,-6.975 h1.5
  text "94" at -47.605,5.475 h1.5
  text "11" at -40.88,-6.975 h1.5
  text "96" at -39.985,5.475 h1.5
  text "124" at -5.05,5.475 h1.5
  text "41" at 2.175,-6.975 h1.5
  text "126" at 2.57,5.475 h1.5
  text "83" at 55.265,-6.975 h1.5
  text "168" at 55.91,5.475 h1.5
  text "9" at -48.125,-6.975 h1.5
  text "39" at -5.695,-6.975 h1.5

## 179717-7 [mm] "Connector; CHAMP Miniature Ribbon 050 Series II; 50 Position; Right Angle"
height 9.6
pads (52):
  rect 1.4x1.4 hole 0.8: 1(-15.24,-10.477)
  round 1.4 hole 0.8: 2(-13.97,-8.572) 3(-12.7,-10.477) 4(-11.43,-8.572) 5(-10.16,-10.477) 6(-8.89,-8.572) 7(-7.62,-10.477) 8(-6.35,-8.572) 9(-5.08,-10.477) 10(-3.81,-8.572) 11(-2.54,-10.477) 12(-1.27,-8.572) 13(0,-10.477) 14(1.27,-8.572) 15(2.54,-10.477) 16(3.81,-8.572) 17(5.08,-10.477) 18(6.35,-8.572) 19(7.62,-10.477) 20(8.89,-8.572) 21(10.16,-10.477) 22(11.43,-8.572) 23(12.7,-10.477) 24(13.97,-8.572) 25(15.24,-10.477) 26(15.24,-6.667) 27(13.97,-4.763) 28(12.7,-6.667) 29(11.43,-4.763) 30(10.16,-6.667) 31(8.89,-4.763) 32(7.62,-6.667) 33(6.35,-4.763) 34(5.08,-6.667) 35(3.81,-4.763) 36(2.54,-6.667) 37(1.27,-4.763) 38(0,-6.667) 39(-1.27,-4.763) 40(-2.54,-6.667) 41(-3.81,-4.763) 42(-5.08,-6.667) 43(-6.35,-4.763) 44(-7.62,-6.667) 45(-8.89,-4.763) 46(-10.16,-6.667) 47(-11.43,-4.763) 48(-12.7,-6.667) 49(-13.97,-4.763) 50(-15.24,-6.667)
  round 5.5 hole 2.8: 51(-23.25,-8.572) 52(23.25,-8.572)
Top Overlay:
  lines w0.2: -26.2,-2.478 26.2,-2.478 ; -22.215,4.292 -21.275,4.92 -20.553,4.92 cw(c-20.655,4.523) -20.245,4.523 ; -22.201,4.277 ccw(c-21.975,4.032) -22.225,3.812 -21.345,3.813 -21.345,0.022 ; -20.245,4.543 -19.875,0.022 ; -19.135,0.028 ccw(c-19.135,0.723) -18.44,0.723 -18.44,4.523 ; -18.435,4.527 cw(c-17.74,4.527) -17.74,5.222 17.74,5.222 cw(c17.74,4.527) 18.435,4.527 ; -17,-11.777 -17,-2.558 ; 17,-11.777 17,-2.478 ; 18.44,4.523 18.44,0.723 ccw(c19.135,0.723) 19.135,0.028 ; 19.875,0.022 20.245,4.543 ; 20.245,4.523 cw(c20.655,4.523) 20.553,4.92 21.275,4.92 22.215,4.292 ; 21.345,0.022 21.345,3.812 22.225,3.813 ccw(c21.975,4.032) 22.201,4.277 ; -26.2,-11.777 -26.2,0.022 26.2,0.022 26.2,-11.777 -26.2,-11.777
  text "1" at -15.49,-13.752 h1.5
  text "25" at 13.99,-13.752 h1.5
  text "50" at -16.49,-2.003 h1.5
  text "26" at 13.99,-2.003 h1.5

## 188578-1 [mm] "Connector; CompactPCI; 154 Position; Vertical"
height 13.45
pads (155):
  round 3.3 hole 2: 155(0,2)
  round 1.3 hole 0.7: A1(-24,-4) A2(-22,-4) A3(-20,-4) A4(-18,-4) A5(-16,-4) A6(-14,-4) A7(-12,-4) A8(-10,-4) A9(-8,-4) A10(-6,-4) A11(-4,-4) A15(4,-4) A16(6,-4) A17(8,-4) A18(10,-4) A19(12,-4) A20(14,-4) A21(16,-4) A22(18,-4) A23(20,-4) A24(22,-4) A25(24,-4) B1(-24,-2) B2(-22,-2) B3(-20,-2) B4(-18,-2) B5(-16,-2) B6(-14,-2) B7(-12,-2) B8(-10,-2) B9(-8,-2) B10(-6,-2) B11(-4,-2) B15(4,-2) B16(6,-2) B17(8,-2) B18(10,-2) B19(12,-2) B20(14,-2) B21(16,-2) B22(18,-2) B23(20,-2) B24(22,-2) B25(24,-2) C1(-24,0) C2(-22,0) C3(-20,0) C4(-18,0) C5(-16,0) C6(-14,0) C7(-12,0) C8(-10,0) C9(-8,0) C10(-6,0) C11(-4,0) C15(4,0) C16(6,0) C17(8,0) C18(10,0) C19(12,0) C20(14,0) C21(16,0) C22(18,0) C23(20,0) C24(22,0) C25(24,0) D1(-24,2) D2(-22,2) D3(-20,2) D4(-18,2) D5(-16,2) D6(-14,2) D7(-12,2) D8(-10,2) D9(-8,2) D10(-6,2) D11(-4,2) D15(4,2) D16(6,2) D17(8,2) D18(10,2) D19(12,2) D20(14,2) D21(16,2) D22(18,2) D23(20,2) D24(22,2) D25(24,2) E1(-24,4) E2(-22,4) E3(-20,4) E4(-18,4) E5(-16,4) E6(-14,4) E7(-12,4) E8(-10,4) E9(-8,4) E10(-6,4) E11(-4,4) E15(4,4) E16(6,4) E17(8,4) E18(10,4) E19(12,4) E20(14,4) E21(16,4) E22(18,4) E23(20,4) E24(22,4) E25(24,4) F1(-24,6) F2(-22,6) F3(-20,6) F4(-18,6) F5(-16,6) F6(-14,6) F7(-12,6) F8(-10,6) F9(-8,6) F10(-6,6) F11(-4,6) F15(4,6) F16(6,6) F17(8,6) F18(10,6) F19(12,6) F20(14,6) F21(16,6) F22(18,6) F23(20,6) F24(22,6) F25(24,6) Z1(-24,-6) Z2(-22,-6) Z3(-20,-6) Z4(-18,-6) Z5(-16,-6) Z6(-14,-6) Z7(-12,-6) Z8(-10,-6) Z9(-8,-6) Z10(-6,-6) Z11(-4,-6) Z15(4,-6) Z16(6,-6) Z17(8,-6) Z18(10,-6) Z19(12,-6) Z20(14,-6) Z21(16,-6) Z22(18,-6) Z23(20,-6) Z24(22,-6) Z25(24,-6)
Top Overlay:
  lines w0.2: -25,-7.7 25,-7.7 25,7.7 -25,7.7 -25,-7.7
  text "1" at -24.25,-9.675 h1.5
  text "11" at -4.875,-9.675 h1.5
  text "15" at 2.875,-9.675 h1.5
  text "25" at 22.75,-9.675 h1.5
  text "z" at -26.475,-6.5 h1.5
  text "a" at -26.475,-4.5 h1.5
  text "b" at -26.475,-2.5 h1.5
  text "c" at -26.475,-0.5 h1.5
  text "d" at -26.475,1.5 h1.5
  text "e" at -26.475,3.5 h1.5
  text "f" at -26.475,5.475 h1.5

## 188834-1 [mm] "Connector; CompactPCI; 154 Position; Vertical"
height 13.45
pads (155):
  round 3.3 hole 2: 155(0,2)
  round 1.3 hole 0.7: A1(-24,-4) A2(-22,-4) A3(-20,-4) A4(-18,-4) A5(-16,-4) A6(-14,-4) A7(-12,-4) A8(-10,-4) A9(-8,-4) A10(-6,-4) A11(-4,-4) A15(4,-4) A16(6,-4) A17(8,-4) A18(10,-4) A19(12,-4) A20(14,-4) A21(16,-4) A22(18,-4) A23(20,-4) A24(22,-4) A25(24,-4) B1(-24,-2) B2(-22,-2) B3(-20,-2) B4(-18,-2) B5(-16,-2) B6(-14,-2) B7(-12,-2) B8(-10,-2) B9(-8,-2) B10(-6,-2) B11(-4,-2) B15(4,-2) B16(6,-2) B17(8,-2) B18(10,-2) B19(12,-2) B20(14,-2) B21(16,-2) B22(18,-2) B23(20,-2) B24(22,-2) B25(24,-2) C1(-24,0) C2(-22,0) C3(-20,0) C4(-18,0) C5(-16,0) C6(-14,0) C7(-12,0) C8(-10,0) C9(-8,0) C10(-6,0) C11(-4,0) C15(4,0) C16(6,0) C17(8,0) C18(10,0) C19(12,0) C20(14,0) C21(16,0) C22(18,0) C23(20,0) C24(22,0) C25(24,0) D1(-24,2) D2(-22,2) D3(-20,2) D4(-18,2) D5(-16,2) D6(-14,2) D7(-12,2) D8(-10,2) D9(-8,2) D10(-6,2) D11(-4,2) D15(4,2) D16(6,2) D17(8,2) D18(10,2) D19(12,2) D20(14,2) D21(16,2) D22(18,2) D23(20,2) D24(22,2) D25(24,2) E1(-24,4) E2(-22,4) E3(-20,4) E4(-18,4) E5(-16,4) E6(-14,4) E7(-12,4) E8(-10,4) E9(-8,4) E10(-6,4) E11(-4,4) E15(4,4) E16(6,4) E17(8,4) E18(10,4) E19(12,4) E20(14,4) E21(16,4) E22(18,4) E23(20,4) E24(22,4) E25(24,4) F1(-24,6) F2(-22,6) F3(-20,6) F4(-18,6) F5(-16,6) F6(-14,6) F7(-12,6) F8(-10,6) F9(-8,6) F10(-6,6) F11(-4,6) F15(4,6) F16(6,6) F17(8,6) F18(10,6) F19(12,6) F20(14,6) F21(16,6) F22(18,6) F23(20,6) F24(22,6) F25(24,6) Z1(-24,-6) Z2(-22,-6) Z3(-20,-6) Z4(-18,-6) Z5(-16,-6) Z6(-14,-6) Z7(-12,-6) Z8(-10,-6) Z9(-8,-6) Z10(-6,-6) Z11(-4,-6) Z15(4,-6) Z16(6,-6) Z17(8,-6) Z18(10,-6) Z19(12,-6) Z20(14,-6) Z21(16,-6) Z22(18,-6) Z23(20,-6) Z24(22,-6) Z25(24,-6)
Top Overlay:
  lines w0.2: -25,-7.7 -25,7.7 25,7.7 25,-7.7 -25,-7.7
  text "f" at -26.475,5.475 h1.5
  text "e" at -26.475,3.5 h1.5
  text "d" at -26.475,1.5 h1.5
  text "c" at -26.475,-0.5 h1.5
  text "b" at -26.475,-2.5 h1.5
  text "a" at -26.475,-4.5 h1.5
  text "z" at -26.475,-6.5 h1.5
  text "25" at 22.75,-9.675 h1.5
  text "15" at 2.875,-9.675 h1.5
  text "11" at -4.875,-9.675 h1.5
  text "1" at -24.25,-9.675 h1.5

## 188834-4 [mm] "Connector; CompactPCI; 154 Position; Vertical"
height 13.45
pads (155):
  round 3.3 hole 2: 155(0,2)
  round 1.3 hole 0.7: A1(-24,-4) A2(-22,-4) A3(-20,-4) A4(-18,-4) A5(-16,-4) A6(-14,-4) A7(-12,-4) A8(-10,-4) A9(-8,-4) A10(-6,-4) A11(-4,-4) A15(4,-4) A16(6,-4) A17(8,-4) A18(10,-4) A19(12,-4) A20(14,-4) A21(16,-4) A22(18,-4) A23(20,-4) A24(22,-4) A25(24,-4) B1(-24,-2) B2(-22,-2) B3(-20,-2) B4(-18,-2) B5(-16,-2) B6(-14,-2) B7(-12,-2) B8(-10,-2) B9(-8,-2) B10(-6,-2) B11(-4,-2) B15(4,-2) B16(6,-2) B17(8,-2) B18(10,-2) B19(12,-2) B20(14,-2) B21(16,-2) B22(18,-2) B23(20,-2) B24(22,-2) B25(24,-2) C1(-24,0) C2(-22,0) C3(-20,0) C4(-18,0) C5(-16,0) C6(-14,0) C7(-12,0) C8(-10,0) C9(-8,0) C10(-6,0) C11(-4,0) C15(4,0) C16(6,0) C17(8,0) C18(10,0) C19(12,0) C20(14,0) C21(16,0) C22(18,0) C23(20,0) C24(22,0) C25(24,0) D1(-24,2) D2(-22,2) D3(-20,2) D4(-18,2) D5(-16,2) D6(-14,2) D7(-12,2) D8(-10,2) D9(-8,2) D10(-6,2) D11(-4,2) D15(4,2) D16(6,2) D17(8,2) D18(10,2) D19(12,2) D20(14,2) D21(16,2) D22(18,2) D23(20,2) D24(22,2) D25(24,2) E1(-24,4) E2(-22,4) E3(-20,4) E4(-18,4) E5(-16,4) E6(-14,4) E7(-12,4) E8(-10,4) E9(-8,4) E10(-6,4) E11(-4,4) E15(4,4) E16(6,4) E17(8,4) E18(10,4) E19(12,4) E20(14,4) E21(16,4) E22(18,4) E23(20,4) E24(22,4) E25(24,4) F1(-24,6) F2(-22,6) F3(-20,6) F4(-18,6) F5(-16,6) F6(-14,6) F7(-12,6) F8(-10,6) F9(-8,6) F10(-6,6) F11(-4,6) F15(4,6) F16(6,6) F17(8,6) F18(10,6) F19(12,6) F20(14,6) F21(16,6) F22(18,6) F23(20,6) F24(22,6) F25(24,6) Z1(-24,-6) Z2(-22,-6) Z3(-20,-6) Z4(-18,-6) Z5(-16,-6) Z6(-14,-6) Z7(-12,-6) Z8(-10,-6) Z9(-8,-6) Z10(-6,-6) Z11(-4,-6) Z15(4,-6) Z16(6,-6) Z17(8,-6) Z18(10,-6) Z19(12,-6) Z20(14,-6) Z21(16,-6) Z22(18,-6) Z23(20,-6) Z24(22,-6) Z25(24,-6)
Top Overlay:
  lines w0.2: -25,-7.7 25,-7.7 25,7.7 -25,7.7 -25,-7.7
  text "1" at -24.25,-9.675 h1.5
  text "11" at -4.875,-9.675 h1.5
  text "15" at 2.875,-9.675 h1.5
  text "25" at 22.75,-9.675 h1.5
  text "z" at -26.475,-6.5 h1.5
  text "a" at -26.475,-4.5 h1.5
  text "b" at -26.475,-2.5 h1.5
  text "c" at -26.475,-0.5 h1.5
  text "d" at -26.475,1.5 h1.5
  text "e" at -26.475,3.5 h1.5
  text "f" at -26.475,5.475 h1.5

## 188834-9 [mm] "Connector; CompactPCI; 154 Position; Vertical"
height 13.45
pads (155):
  round 3.3 hole 2: 155(0,2)
  round 1.3 hole 0.7: A1(-24,-4) A2(-22,-4) A3(-20,-4) A4(-18,-4) A5(-16,-4) A6(-14,-4) A7(-12,-4) A8(-10,-4) A9(-8,-4) A10(-6,-4) A11(-4,-4) A15(4,-4) A16(6,-4) A17(8,-4) A18(10,-4) A19(12,-4) A20(14,-4) A21(16,-4) A22(18,-4) A23(20,-4) A24(22,-4) A25(24,-4) B1(-24,-2) B2(-22,-2) B3(-20,-2) B4(-18,-2) B5(-16,-2) B6(-14,-2) B7(-12,-2) B8(-10,-2) B9(-8,-2) B10(-6,-2) B11(-4,-2) B15(4,-2) B16(6,-2) B17(8,-2) B18(10,-2) B19(12,-2) B20(14,-2) B21(16,-2) B22(18,-2) B23(20,-2) B24(22,-2) B25(24,-2) C1(-24,0) C2(-22,0) C3(-20,0) C4(-18,0) C5(-16,0) C6(-14,0) C7(-12,0) C8(-10,0) C9(-8,0) C10(-6,0) C11(-4,0) C15(4,0) C16(6,0) C17(8,0) C18(10,0) C19(12,0) C20(14,0) C21(16,0) C22(18,0) C23(20,0) C24(22,0) C25(24,0) D1(-24,2) D2(-22,2) D3(-20,2) D4(-18,2) D5(-16,2) D6(-14,2) D7(-12,2) D8(-10,2) D9(-8,2) D10(-6,2) D11(-4,2) D15(4,2) D16(6,2) D17(8,2) D18(10,2) D19(12,2) D20(14,2) D21(16,2) D22(18,2) D23(20,2) D24(22,2) D25(24,2) E1(-24,4) E2(-22,4) E3(-20,4) E4(-18,4) E5(-16,4) E6(-14,4) E7(-12,4) E8(-10,4) E9(-8,4) E10(-6,4) E11(-4,4) E15(4,4) E16(6,4) E17(8,4) E18(10,4) E19(12,4) E20(14,4) E21(16,4) E22(18,4) E23(20,4) E24(22,4) E25(24,4) F1(-24,6) F2(-22,6) F3(-20,6) F4(-18,6) F5(-16,6) F6(-14,6) F7(-12,6) F8(-10,6) F9(-8,6) F10(-6,6) F11(-4,6) F15(4,6) F16(6,6) F17(8,6) F18(10,6) F19(12,6) F20(14,6) F21(16,6) F22(18,6) F23(20,6) F24(22,6) F25(24,6) Z1(-24,-6) Z2(-22,-6) Z3(-20,-6) Z4(-18,-6) Z5(-16,-6) Z6(-14,-6) Z7(-12,-6) Z8(-10,-6) Z9(-8,-6) Z10(-6,-6) Z11(-4,-6) Z15(4,-6) Z16(6,-6) Z17(8,-6) Z18(10,-6) Z19(12,-6) Z20(14,-6) Z21(16,-6) Z22(18,-6) Z23(20,-6) Z24(22,-6) Z25(24,-6)
Top Overlay:
  lines w0.2: -25,-7.7 -25,7.7 25,7.7 25,-7.7 -25,-7.7
  text "f" at -26.475,5.475 h1.5
  text "e" at -26.475,3.5 h1.5
  text "d" at -26.475,1.5 h1.5
  text "c" at -26.475,-0.5 h1.5
  text "b" at -26.475,-2.5 h1.5
  text "a" at -26.475,-4.5 h1.5
  text "z" at -26.475,-6.5 h1.5
  text "25" at 22.75,-9.675 h1.5
  text "15" at 2.875,-9.675 h1.5
  text "11" at -4.875,-9.675 h1.5
  text "1" at -24.25,-9.675 h1.5

## 188835-1 [mm] "Connector; CompactPCI; 154 Position; Vertical"
height 13.45
pads (154):
  round 1.3 hole 0.7: A1(-21,-4) A2(-19,-4) A3(-17,-4) A4(-15,-4) A5(-13,-4) A6(-11,-4) A7(-9,-4) A8(-7,-4) A9(-5,-4) A10(-3,-4) A11(-1,-4) A12(1,-4) A13(3,-4) A14(5,-4) A15(7,-4) A16(9,-4) A17(11,-4) A18(13,-4) A19(15,-4) A20(17,-4) A21(19,-4) A22(21,-4) B1(-21,-2) B2(-19,-2) B3(-17,-2) B4(-15,-2) B5(-13,-2) B6(-11,-2) B7(-9,-2) B8(-7,-2) B9(-5,-2) B10(-3,-2) B11(-1,-2) B12(1,-2) B13(3,-2) B14(5,-2) B15(7,-2) B16(9,-2) B17(11,-2) B18(13,-2) B19(15,-2) B20(17,-2) B21(19,-2) B22(21,-2) C1(-21,0) C2(-19,0) C3(-17,0) C4(-15,0) C5(-13,0) C6(-11,0) C7(-9,0) C8(-7,0) C9(-5,0) C10(-3,0) C11(-1,0) C12(1,0) C13(3,0) C14(5,0) C15(7,0) C16(9,0) C17(11,0) C18(13,0) C19(15,0) C20(17,0) C21(19,0) C22(21,0) D1(-21,2) D2(-19,2) D3(-17,2) D4(-15,2) D5(-13,2) D6(-11,2) D7(-9,2) D8(-7,2) D9(-5,2) D10(-3,2) D11(-1,2) D12(1,2) D13(3,2) D14(5,2) D15(7,2) D16(9,2) D17(11,2) D18(13,2) D19(15,2) D20(17,2) D21(19,2) D22(21,2) E1(-21,4) E2(-19,4) E3(-17,4) E4(-15,4) E5(-13,4) E6(-11,4) E7(-9,4) E8(-7,4) E9(-5,4) E10(-3,4) E11(-1,4) E12(1,4) E13(3,4) E14(5,4) E15(7,4) E16(9,4) E17(11,4) E18(13,4) E19(15,4) E20(17,4) E21(19,4) E22(21,4) F1(-21,6) F2(-19,6) F3(-17,6) F4(-15,6) F5(-13,6) F6(-11,6) F7(-9,6) F8(-7,6) F9(-5,6) F10(-3,6) F11(-1,6) F12(1,6) F13(3,6) F14(5,6) F15(7,6) F16(9,6) F17(11,6) F18(13,6) F19(15,6) F20(17,6) F21(19,6) F22(21,6) Z1(-21,-6) Z2(-19,-6) Z3(-17,-6) Z4(-15,-6) Z5(-13,-6) Z6(-11,-6) Z7(-9,-6) Z8(-7,-6) Z9(-5,-6) Z10(-3,-6) Z11(-1,-6) Z12(1,-6) Z13(3,-6) Z14(5,-6) Z15(7,-6) Z16(9,-6) Z17(11,-6) Z18(13,-6) Z19(15,-6) Z20(17,-6) Z21(19,-6) Z22(21,-6)
Top Overlay:
  lines w0.2: -22,-7.7 -22,7.7 22,7.7 22,-7.7 -22,-7.7
  text "f" at -23.475,5.225 h1.5
  text "e" at -23.475,3.5 h1.5
  text "d" at -23.475,1.5 h1.5
  text "c" at -23.475,-0.5 h1.5
  text "b" at -23.475,-2.5 h1.5
  text "a" at -23.475,-4.5 h1.5
  text "z" at -23.475,-6.5 h1.5
  text "22" at 19.75,-9.675 h1.5
  text "1" at -21.25,-9.675 h1.5

## 188835-9 [mm] "Connector; CompactPCI; 154 Position; Vertical"
height 13.45
pads (154):
  round 1.3 hole 0.7: A1(-21,-4) A2(-19,-4) A3(-17,-4) A4(-15,-4) A5(-13,-4) A6(-11,-4) A7(-9,-4) A8(-7,-4) A9(-5,-4) A10(-3,-4) A11(-1,-4) A12(1,-4) A13(3,-4) A14(5,-4) A15(7,-4) A16(9,-4) A17(11,-4) A18(13,-4) A19(15,-4) A20(17,-4) A21(19,-4) A22(21,-4) B1(-21,-2) B2(-19,-2) B3(-17,-2) B4(-15,-2) B5(-13,-2) B6(-11,-2) B7(-9,-2) B8(-7,-2) B9(-5,-2) B10(-3,-2) B11(-1,-2) B12(1,-2) B13(3,-2) B14(5,-2) B15(7,-2) B16(9,-2) B17(11,-2) B18(13,-2) B19(15,-2) B20(17,-2) B21(19,-2) B22(21,-2) C1(-21,0) C2(-19,0) C3(-17,0) C4(-15,0) C5(-13,0) C6(-11,0) C7(-9,0) C8(-7,0) C9(-5,0) C10(-3,0) C11(-1,0) C12(1,0) C13(3,0) C14(5,0) C15(7,0) C16(9,0) C17(11,0) C18(13,0) C19(15,0) C20(17,0) C21(19,0) C22(21,0) D1(-21,2) D2(-19,2) D3(-17,2) D4(-15,2) D5(-13,2) D6(-11,2) D7(-9,2) D8(-7,2) D9(-5,2) D10(-3,2) D11(-1,2) D12(1,2) D13(3,2) D14(5,2) D15(7,2) D16(9,2) D17(11,2) D18(13,2) D19(15,2) D20(17,2) D21(19,2) D22(21,2) E1(-21,4) E2(-19,4) E3(-17,4) E4(-15,4) E5(-13,4) E6(-11,4) E7(-9,4) E8(-7,4) E9(-5,4) E10(-3,4) E11(-1,4) E12(1,4) E13(3,4) E14(5,4) E15(7,4) E16(9,4) E17(11,4) E18(13,4) E19(15,4) E20(17,4) E21(19,4) E22(21,4) F1(-21,6) F2(-19,6) F3(-17,6) F4(-15,6) F5(-13,6) F6(-11,6) F7(-9,6) F8(-7,6) F9(-5,6) F10(-3,6) F11(-1,6) F12(1,6) F13(3,6) F14(5,6) F15(7,6) F16(9,6) F17(11,6) F18(13,6) F19(15,6) F20(17,6) F21(19,6) F22(21,6) Z1(-21,-6) Z2(-19,-6) Z3(-17,-6) Z4(-15,-6) Z5(-13,-6) Z6(-11,-6) Z7(-9,-6) Z8(-7,-6) Z9(-5,-6) Z10(-3,-6) Z11(-1,-6) Z12(1,-6) Z13(3,-6) Z14(5,-6) Z15(7,-6) Z16(9,-6) Z17(11,-6) Z18(13,-6) Z19(15,-6) Z20(17,-6) Z21(19,-6) Z22(21,-6)
Top Overlay:
  lines w0.2: -22,-7.7 -22,7.7 22,7.7 22,-7.7 -22,-7.7
  text "f" at -23.475,5.225 h1.5
  text "e" at -23.475,3.5 h1.5
  text "d" at -23.475,1.5 h1.5
  text "c" at -23.475,-0.5 h1.5
  text "b" at -23.475,-2.5 h1.5
  text "a" at -23.475,-4.5 h1.5
  text "z" at -23.475,-6.5 h1.5
  text "22" at 19.75,-9.675 h1.5
  text "1" at -21.25,-9.675 h1.5